# Altium footprint library Connector_Audio.PcbLib: 212 footprints (part 2 of 14)
Each footprint in its own frame and in the unit in brackets; x right, y up, seen from the top. Pads: shape width x height; smd on the part's side, far side on the other; paste and mask are expansions set on the pad; w line width, h text height; cw(c..) or ccw(c..) is an arc to the next point about the centre after c.
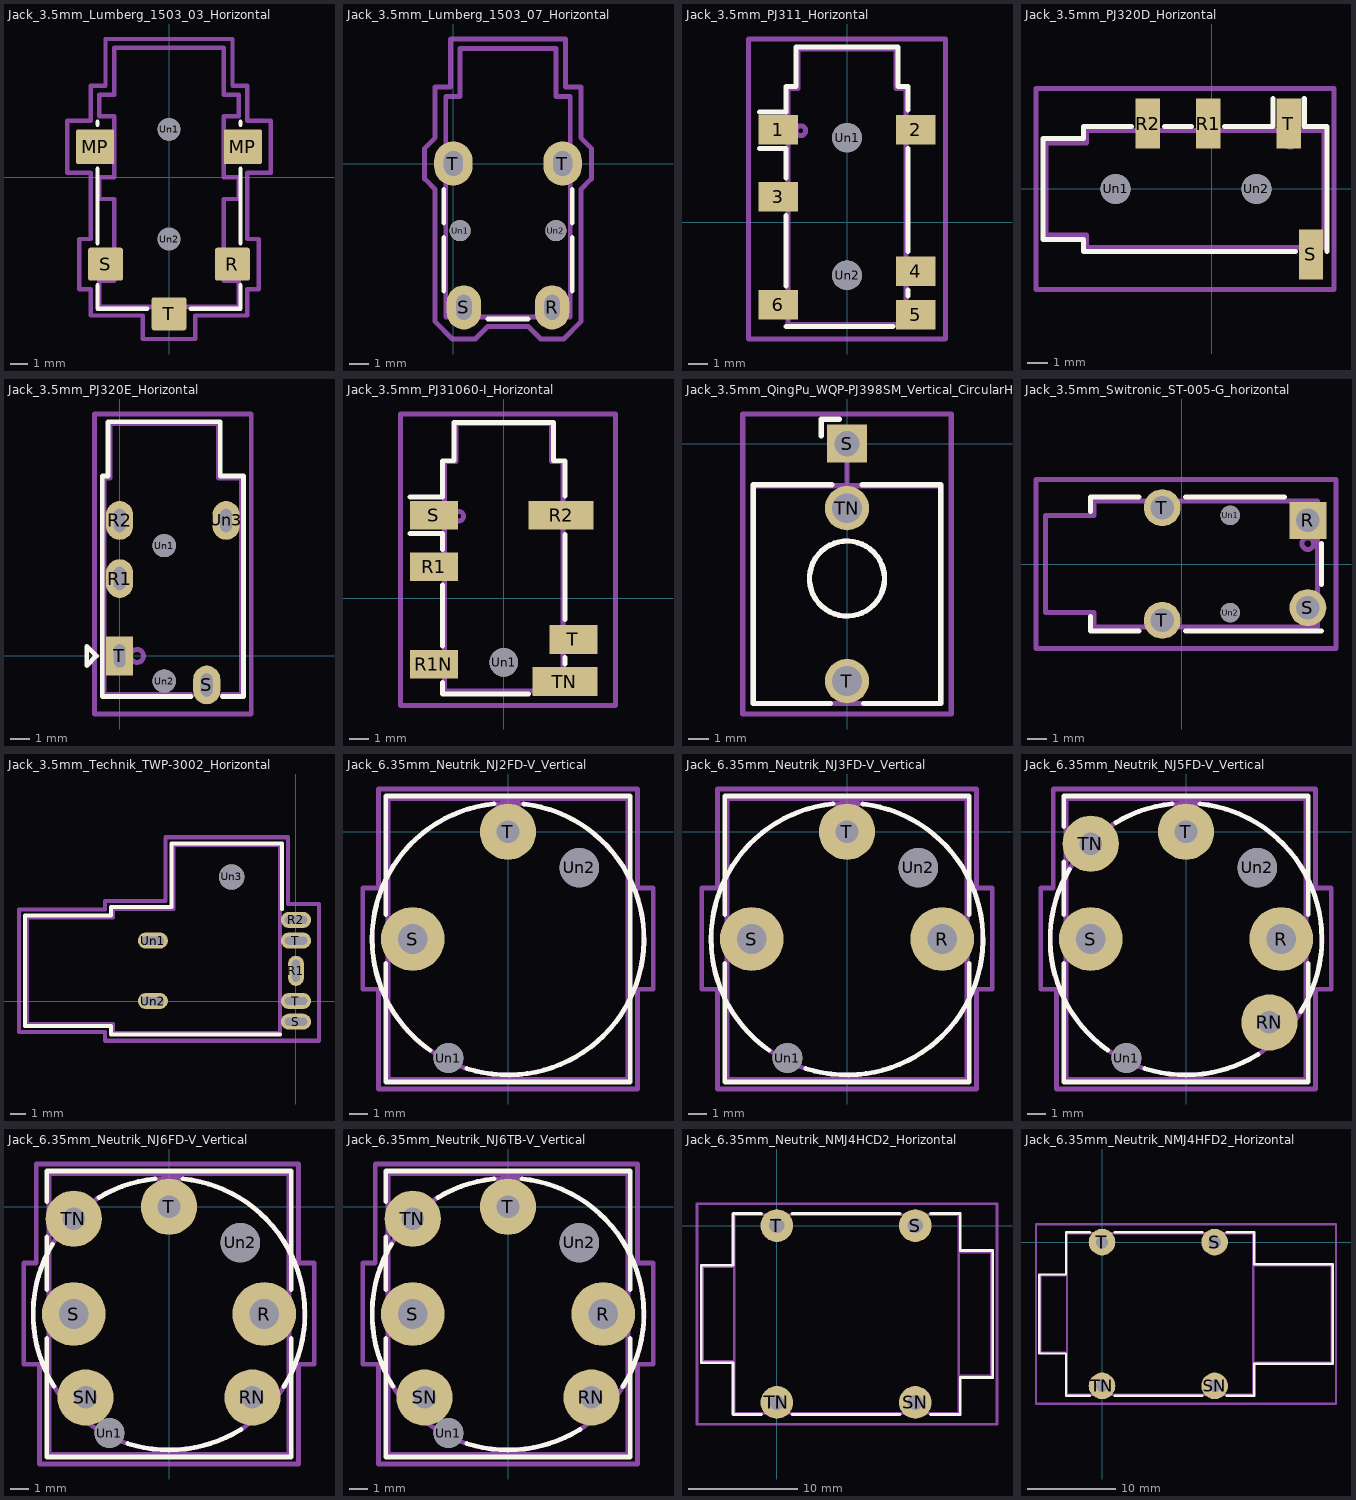
[diagram p1: the footprints below, top view; thin cyan lines are the x and y axes]

## Jack_3.5mm_Lumberg_1503_03_Horizontal [mm]
pads (7):
  rrect12% 2.2x2 smd: MP(-4.25,1.75) MP(4.25,1.75)
  rrect13% 2x1.9 smd: R(3.65,-5) S(-3.65,-5) T(0,-7.85)
  round 1.3 hole 1.3: Un1(0,2.75) Un2(0,-3.55)
F.SilkS:
  lines w0.254: -4.11,-6.21 -4.11,-7.56 -1.26,-7.56 ; -4.11,-3.79 -4.11,0.49 ; -4.11,3.01 -4.11,3.2 ; 1.26,-7.56 4.11,-7.56 4.11,-6.21 ; 4.11,-3.79 4.11,0.49 ; 4.11,3.01 4.11,3.2
Top Assembly:
  lines w0.254: -4,-7.45 -4,-5.95 -3.15,-5.95 -3.15,-1.25 -4,-1.25 -4,0 -3.15,0 -3.15,3.5 -4,3.5 -4,4.75 -3.15,4.75 -3.15,7.45 3.15,7.45 3.15,4.75 4,4.75 4,3.5 3.15,3.5 3.15,0 4,0 4,-1.25 3.15,-1.25 3.15,-5.95 4,-5.95 4,-7.45 -4,-7.45
  text "'.Designator'" at 0.84,-4.087 h1
Top Courtyard:
  lines w0.254: -5.85,0.25 -5.85,3.25 -4.5,3.25 -4.5,5.25 -3.65,5.25 -3.65,7.95 3.65,7.95 3.65,5.25 4.5,5.25 4.5,3.25 5.85,3.25 5.85,0.25 4.5,0.25 4.5,-3.55 5.15,-3.55 5.15,-6.45 4.5,-6.45 4.5,-7.95 1.5,-7.95 1.5,-9.3 -1.5,-9.3 -1.5,-7.95 -4.5,-7.95 -4.5,-6.45 -5.15,-6.45 -5.15,-3.55 -4.5,-3.55 -4.5,0.25 -5.85,0.25
Top Designator:
  text ".Designator" at -7.618,-1.183 h1.52

## Jack_3.5mm_Lumberg_1503_07_Horizontal [mm]
pads (6):
  rrect100% 1.8x2.3 hole 1.3 slot 0.8 at 0 deg: R(5.15,-7.5) S(0.55,-7.5)
  rrect100% 2x2.3 hole 1.3 slot 1 at 0 deg: T(0,0) T(5.7,0)
  round 1.1 hole 1.1: Un1(0.35,-3.5) Un2(5.35,-3.5)
F.SilkS:
  lines w0.254: -0.5,-6.65 -0.5,-3.85 ; -0.5,-3.1 -0.5,-1.35 ; 1.8,-8.1 3.9,-8.1 ; 6.2,-6.65 6.2,-3.85 ; 6.2,-3.1 6.2,-1.35
Top Assembly:
  lines w0.254: -0.4,-8 -0.4,3.5 0.35,3.5 0.35,6 5.35,6 5.35,3.5 6.1,3.5 6.1,-8 -0.4,-8
  text "'.Designator'" at 3.69,-5.072 h1
Top Courtyard:
  lines w0.254: -1.5,-0.8 -1.5,0.8 -0.95,1.35 -0.95,4 -0.15,4 -0.15,6.5 5.85,6.5 5.85,4 6.65,4 6.65,1.35 7.2,0.8 7.2,-0.8 6.65,-1.35 6.65,-8.25 5.75,-9.15 4.55,-9.15 3.9,-8.5 1.8,-8.5 1.15,-9.15 -0.05,-9.15 -0.95,-8.25 -0.95,-1.35 -1.5,-0.8
Top Designator:
  text ".Designator" at -4.768,-1.833 h1.52

## Jack_3.5mm_PJ311_Horizontal [mm]
pads (8):
  rect 2x1.5 smd: 1(-3.5,4.7) 2(3.5,4.7) 3(-3.5,1.3) 4(3.5,-2.5) 5(3.5,-4.7) 6(-3.5,-4.2)
  round 1.5 hole 1.5: Un1(0,4.3) Un2(0,-2.7)
F.SilkS:
  lines w0.254: -4.45,3.75 -3.1,3.75 -3.1,2.25 ; -4.45,5.6 -3.1,5.6 -3.1,6.9 -2.6,6.9 -2.6,8.9 2.6,8.9 2.6,6.9 3.1,6.9 3.1,5.7 ; -3.1,-5.3 2.35,-5.3 ; -3.1,-3.25 -3.1,0.35 ; 3.1,-3.75 3.1,-3.45 ; 3.1,-1.5 3.1,3.75
Top Assembly:
  circle w0.254: c-2.35,4.65 r0.25
  lines w0.254: -3,-5.2 -3,6.8 -2.5,6.8 -2.5,8.8 2.5,8.8 2.5,6.8 3,6.8 3,-5.2 -3,-5.2
  text "'.Designator'" at -4.047,-0.84 h1
Top Courtyard:
  lines w0.254: -5,-5.94 -5,9.31 5,9.31 5,-5.94 -5,-5.94
Top Designator:
  text ".Designator" at -7.618,1.177 h1.52

## Jack_3.5mm_PJ320D_Horizontal [mm]
pads (6):
  rect 1.2x2.5 smd: R1(-0.175,3.25) R2(-3.175,3.25) S(4.925,-3.25) T(3.825,3.25)
  round 1.5 hole 1.5: Un1(-4.775,0) Un2(2.225,0)
F.SilkS:
  lines w0.254: -4,3.1 -6.375,3.1 -6.375,2.5 -8.375,2.5 -8.375,-2.5 -6.375,-2.5 -6.375,-3.1 4.15,-3.1 ; -2.35,3.1 -1,3.1 ; 0.65,3.1 3.05,3.1 3.05,4.5 ; 4.6,4.5 4.6,3.1 5.725,3.1 5.725,-3.1
Top Assembly:
  circle w0.254: c3.9,2.35 r0.255
  lines w0.254: -8.225,-2.3 -8.225,2.3 -6.225,2.3 -6.225,2.9 5.575,2.9 5.575,-2.9 -6.225,-2.9 -6.225,-2.3 -8.225,-2.3
  text "'.Designator'" at -5.242,-0.84 h1
Top Courtyard:
  lines w0.254: -8.73,-5 -8.73,5 6.07,5 6.07,-5 -8.73,-5
Top Designator:
  text ".Designator" at -8.948,-0.508 h1.52

## Jack_3.5mm_PJ320E_Horizontal [mm]
pads (7):
  rrect100% 1.4x2 hole 0.6 slot 1.2 at 90 deg: R1(0,4) R2(0,7) S(4.5,-1.5) Un3(5.5,7)
  rect 1.4x2 hole 0.6 slot 1.2 at 90 deg: T(0,0)
  round 1.2 hole 1.2: Un1(2.3,5.7) Un2(2.3,-1.3)
F.SilkS:
  lines w0.254: 3.7,-2.1 -0.9,-2.1 -0.9,9.3 -0.6,9.3 -0.6,12.1 5.2,12.1 5.2,9.3 6.4,9.3 6.4,-2.1 5.3,-2.1 ; -1.7,-0.5 -1.7,0.5 -1.2,0 -1.7,-0.5
Top Assembly:
  circle w0.254: c0.9,0 r0.335
  lines w0.254: 3.7,-2 -0.8,-2 -0.8,9.2 -0.5,9.2 -0.5,12 5.1,12 5.1,9.2 6.3,9.2 6.3,-2 5.3,-2
  text "'.Designator'" at -1.507,13.13 h1
Top Courtyard:
  lines w0.254: -1.3,-3 -1.3,12.5 6.8,12.5 6.8,-3 -1.3,-3
Top Designator:
  text ".Designator" at -5.068,5.092 h1.52

## Jack_3.5mm_PJ31060-I_Horizontal [mm]
pads (7):
  rect 2.5x1.5 smd: R1(-3.65,1.65) R1N(-3.65,-3.45) S(-3.65,4.35) T(3.65,-2.15)
  rect 3.4x1.5 smd: R2(3,4.35) TN(3.2,-4.35)
  round 1.5 hole 1.5: Un1(0,-3.35)
F.SilkS:
  lines w0.254: -4.9,3.4 -3.2,3.4 -3.2,2.55 ; -4.9,5.3 -3.2,5.3 -3.2,7.2 -2.6,7.2 -2.6,9.2 2.6,9.2 2.6,7.2 3.2,7.2 3.2,5.35 ; -3.2,-4.4 -3.2,-5 1.3,-5 ; -3.2,-2.5 -3.2,0.7 ; 3.2,-3.45 3.2,-3.1 ; 3.2,-1.1 3.2,3.35
Top Assembly:
  circle w0.254: c-2.35,4.3 r0.25
  lines w0.254: -3.1,-4.85 -3.1,7.15 -2.5,7.15 -2.5,9.15 2.5,9.15 2.5,7.15 3.1,7.15 3.1,-4.85 -3.1,-4.85
  text "'.Designator'" at -4.047,-0.84 h1
Top Courtyard:
  lines w0.254: -5.4,-5.6 -5.4,9.65 5.85,9.65 5.85,-5.6 -5.4,-5.6
Top Designator:
  text ".Designator" at -7.393,1.517 h1.52

## Jack_3.5mm_QingPu_WQP-PJ398SM_Vertical_CircularHoles [mm]
pads (3):
  rect 1.93x1.83 hole 1.22: S(0,0)
  round 2.13 hole 1.43: T(0,-11.4)
  round 2.13 hole 1.42: TN(0,-3.1)
F.SilkS:
  circle w0.254: c0,-6.48 r1.8
  lines w0.254: -1.23,0.37 -1.23,1.17 -0.37,1.17 ; -0.8,-12.48 -4.5,-12.48 -4.5,-1.98 -0.72,-1.98 ; 0.72,-1.98 4.5,-1.98 4.5,-12.48 0.8,-12.48
Top Assembly:
  circle w0.254: c0,-6.48 r1.8
  lines w0.254: -4.5,-2.08 -4.5,-12.48 4.5,-12.48 4.5,-2.08 ; -4.5,-2.03 4.5,-2.03 ; 0,-2.03 0,0
  text "'.Designator'" at -4.047,-8.84 h1
Top Courtyard:
  lines w0.254: -5,-12.98 -5,1.42 5,1.42 5,-12.98 -5,-12.98
Top Designator:
  text ".Designator" at -7.618,-6.288 h1.52
Cmts.User:
  text "KEEPOUT" at -1.242,-6.731 h0.4

## Jack_3.5mm_Switronic_ST-005-G_horizontal [mm]
pads (6):
  rect 1.9x1.9 hole 1.2: R(6.5,2.25)
  round 1.9 hole 1.2: S(6.5,-2.25) T(-1,-2.9) T(-1,2.9)
  round 1 hole 1: Un1(2.5,2.5) Un2(2.5,-2.5)
F.SilkS:
  lines w0.254: -4.7,-2.7 -4.7,-3.45 -2.2,-3.45 ; -4.7,2.7 -4.7,3.45 -2.2,3.45 ; 0.2,-3.45 7.2,-3.45 ; 0.2,3.45 5.3,3.45 ; 7.2,-1.05 7.2,1.05
Top Assembly:
  circle w0.254: c6.5,1.05 r0.3
  lines w0.254: -7,-2.5 -7,2.5 -4.5,2.5 -4.5,3.25 7,3.25 7,-3.25 -4.5,-3.25 -4.5,-2.5 -7,-2.5
  text "'.Designator'" at -2.828,-0.583 h0.7
Top Courtyard:
  lines w0.254: -7.5,-4.35 -7.5,4.35 7.95,4.35 7.95,-4.35 -7.5,-4.35
Top Designator:
  text ".Designator" at -7.393,-0.508 h1.52

## Jack_3.5mm_Technik_TWP-3002_Horizontal [mm]
pads (8):
  rrect100% 1x1.9 hole 1.4 slot 0.5 at 0 deg: R1(0,1.9)
  rrect100% 1.9x1 hole 0.5 slot 1.4 at 0 deg: R2(0,5.1) S(0,-1.3) T(0,0) T(0,3.8) Un1(-9,3.8) Un2(-9,0)
  round 1.6 hole 1.6: Un3(-4.05,7.8)
F.SilkS:
  lines w0.254: -1,-2.12 -11.62,-2.12 -11.62,-1.57 -17.04,-1.57 -17.04,5.37 -11.62,5.37 -11.62,5.92 -7.82,5.92 -7.82,9.92 -0.88,9.92 -0.88,5.8
Top Assembly:
  lines w0.254: -16.92,-1.45 -16.92,5.25 -11.5,5.25 -11.5,5.8 -7.7,5.8 -7.7,9.8 -1,9.8 -1,-2 -11.5,-2 -11.5,-1.45 -16.92,-1.45
  text "'.Designator'" at -8.547,1.06 h1
Top Courtyard:
  lines w0.254: -17.42,-1.95 -17.42,5.75 -12,5.75 -12,6.3 -8.2,6.3 -8.2,10.3 -0.5,10.3 -0.5,6.1 1.45,6.1 1.45,-2.5 -12,-2.5 -12,-1.95 -17.42,-1.95
Top Designator:
  text ".Designator" at -15.603,3.392 h1.52

## Jack_6.35mm_Neutrik_NJ2FD-V_Vertical [mm]
pads (4):
  round 3.4 hole 1.6: S(-5.08,-5.72)
  round 3 hole 1.2: T(0,0)
  round 1.6 hole 1.6: Un1(-3.18,-12.07)
  round 2.1 hole 2.1: Un2(3.81,-1.91)
F.SilkS:
  lines w0.254: -6.52,-7.02 -6.52,-13.34 6.52,-13.34 6.52,1.9 -6.52,1.9 -6.52,-4.42 ; -4.164,-11.653 cw(c0,-5.72) -0.75,1.49 ; -2.2,-12.63 ccw(c0,-5.72) 0.841,1.483
Top Assembly:
  circle w0.254: c0,-5.72 r7.25
  lines w0.254: -6.4,-13.22 -6.4,1.78 6.4,1.78 6.4,-13.22 -6.4,-13.22
  text "'.Designator'" at -4.047,-6.56 h1
Top Courtyard:
  lines w0.254: -7.75,-8.4 -7.75,-3 -6.9,-3 -6.9,2.28 6.9,2.28 6.9,-3 7.75,-3 7.75,-8.4 6.9,-8.4 6.9,-13.72 -6.9,-13.72 -6.9,-8.4 -7.75,-8.4
Top Designator:
  text ".Designator" at -7.618,-6.228 h1.52

## Jack_6.35mm_Neutrik_NJ3FD-V_Vertical [mm]
pads (5):
  round 3.4 hole 1.6: R(5.08,-5.72) S(-5.08,-5.72)
  round 3 hole 1.2: T(0,0)
  round 1.6 hole 1.6: Un1(-3.18,-12.07)
  round 2.1 hole 2.1: Un2(3.81,-1.91)
F.SilkS:
  lines w0.254: -6.52,-7.02 -6.52,-13.34 6.52,-13.34 6.52,-7.02 ; -6.52,-4.42 -6.52,1.9 6.52,1.9 6.52,-4.42 ; -4.164,-11.653 cw(c0,-5.72) -0.75,1.49 ; -2.2,-12.63 ccw(c0,-5.72) 0.841,1.483
Top Assembly:
  circle w0.254: c0,-5.72 r7.25
  lines w0.254: -6.4,-13.22 6.4,-13.22 6.4,1.78 -6.4,1.78 -6.4,-13.22
  text "'.Designator'" at -4.047,-6.56 h1
Top Courtyard:
  lines w0.254: -7.75,-8.4 -6.9,-8.4 -6.9,-13.72 6.9,-13.72 6.9,-8.4 7.75,-8.4 7.75,-3 6.9,-3 6.9,2.28 -6.9,2.28 -6.9,-3 -7.75,-3 -7.75,-8.4
Top Designator:
  text ".Designator" at -7.618,-6.228 h1.52

## Jack_6.35mm_Neutrik_NJ5FD-V_Vertical [mm]
pads (7):
  round 3.4 hole 1.6: R(5.08,-5.72) S(-5.08,-5.72)
  round 3 hole 1.2: RN(4.45,-10.17) T(0,0) TN(-5.08,-0.64)
  round 1.6 hole 1.6: Un1(-3.18,-12.07)
  round 2.1 hole 2.1: Un2(3.81,-1.91)
F.SilkS:
  lines w0.254: -6.52,-7.02 -6.52,-13.34 6.52,-13.34 6.52,-7.02 ; -6.52,-4.42 -6.52,-1.62 ; -6.52,0.28 -6.52,1.9 6.52,1.9 6.52,-4.42 ; -6.22,-2 ccw(c0,-5.72) -4.186,-11.636 ; -3.727,0.498 cw(c0,-5.72) -0.75,1.49 ; -2.2,-12.63 ccw(c0,-5.72) 3.836,-11.874 ; 0.742,1.488 cw(c0,-5.72) 6.12,-9.6
Top Assembly:
  circle w0.254: c0,-5.72 r7.25
  lines w0.254: -6.4,-13.22 6.4,-13.22 6.4,1.78 -6.4,1.78 -6.4,-13.22
  text "'.Designator'" at -4.047,-6.56 h1
Top Courtyard:
  lines w0.254: -7.75,-8.4 -6.9,-8.4 -6.9,-13.72 6.9,-13.72 6.9,-8.4 7.75,-8.4 7.75,-3 6.9,-3 6.9,2.28 -7.08,2.28 -7.08,-3 -7.75,-3 -7.75,-8.4
Top Designator:
  text ".Designator" at -7.618,-6.228 h1.52

## Jack_6.35mm_Neutrik_NJ6FD-V_Vertical [mm]
pads (8):
  round 3.4 hole 1.6: R(5.08,-5.72) S(-5.08,-5.72)
  round 3 hole 1.2: RN(4.45,-10.17) SN(-4.45,-10.17) T(0,0) TN(-5.08,-0.64)
  round 1.6 hole 1.6: Un1(-3.18,-12.07)
  round 2.1 hole 2.1: Un2(3.81,-1.91)
F.SilkS:
  lines w0.254: -6.52,-7.02 -6.52,-13.34 6.52,-13.34 6.52,-7.02 ; -6.52,-4.42 -6.52,-1.62 ; -6.52,0.28 -6.52,1.9 6.52,1.9 6.52,-4.42 ; -6.22,-2 ccw(c0,-5.72) -6.138,-9.573 ; -3.727,0.498 cw(c0,-5.72) -0.75,1.49 ; -2.2,-12.63 ccw(c0,-5.72) 3.836,-11.874 ; 0.742,1.488 cw(c0,-5.72) 6.12,-9.6
Top Assembly:
  circle w0.254: c0,-5.72 r7.25
  lines w0.254: -6.4,-13.22 6.4,-13.22 6.4,1.78 -6.4,1.78 -6.4,-13.22
  text "'.Designator'" at -4.047,-6.56 h1
Top Courtyard:
  lines w0.254: -7.75,-8.4 -6.9,-8.4 -6.9,-13.72 6.9,-13.72 6.9,-8.4 7.75,-8.4 7.75,-3 6.9,-3 6.9,2.28 -7.08,2.28 -7.08,-3 -7.75,-3 -7.75,-8.4
Top Designator:
  text ".Designator" at -7.618,-6.228 h1.52

## Jack_6.35mm_Neutrik_NJ6TB-V_Vertical [mm]
pads (8):
  round 3.4 hole 1.6: R(5.08,-5.72) S(-5.08,-5.72)
  round 3 hole 1.2: RN(4.45,-10.17) SN(-4.45,-10.17) T(0,0) TN(-5.08,-0.64)
  round 1.6 hole 1.6: Un1(-3.18,-12.07)
  round 2.1 hole 2.1: Un2(3.81,-1.91)
F.SilkS:
  lines w0.254: -6.52,-7.02 -6.52,-13.34 6.52,-13.34 6.52,-7.02 ; -6.52,-4.42 -6.52,-1.62 ; -6.52,0.28 -6.52,1.9 6.52,1.9 6.52,-4.42 ; -6.22,-2 ccw(c0,-5.72) -6.138,-9.573 ; -3.727,0.498 cw(c0,-5.72) -0.75,1.49 ; -2.2,-12.63 ccw(c0,-5.72) 3.836,-11.874 ; 0.742,1.488 cw(c0,-5.72) 6.12,-9.6
Top Assembly:
  circle w0.254: c0,-5.72 r7.25
  lines w0.254: -6.4,-13.22 6.4,-13.22 6.4,1.78 -6.4,1.78 -6.4,-13.22
  text "'.Designator'" at -4.047,-6.56 h1
Top Courtyard:
  lines w0.254: -7.75,-8.4 -6.9,-8.4 -6.9,-13.72 6.9,-13.72 6.9,-8.4 7.75,-8.4 7.75,-3 6.9,-3 6.9,2.28 -7.08,2.28 -7.08,-3 -7.75,-3 -7.75,-8.4
Top Designator:
  text ".Designator" at -7.618,-6.228 h1.52

## Jack_6.35mm_Neutrik_NMJ4HCD2_Horizontal [mm]
pads (4):
  round 3 hole 1.4: S(12.7,0) SN(12.7,-16.23) T(0,0) TN(0,-16.23)
F.SilkS:
  lines w0.254: -6.95,-12.585 -4.03,-12.585 -4.03,-17.335 -1.4,-17.335 ; -6.95,-12.545 -6.95,-3.645 -4.03,-3.645 -4.03,1.105 -1.4,1.105 ; 1.4,-17.335 11.3,-17.335 ; 1.4,1.105 11.3,1.105 ; 14.1,-17.335 16.82,-17.335 16.82,-13.935 19.82,-13.935 19.82,-2.295 16.82,-2.295 16.82,1.105 14.1,1.105
Top Assembly:
  lines w0.254: -3.91,-12.465 -6.83,-12.465 -6.83,-3.765 -3.91,-3.765 ; 16.7,-13.815 19.7,-13.815 19.7,-2.415 16.7,-2.415 ; -3.91,-17.215 16.7,-17.215 16.7,0.985 -3.91,0.985 -3.91,-17.215
  text "'.Designator'" at 2.303,-8.955 h1
Top Courtyard:
  lines w0.254: -7.33,-18.23 20.2,-18.23 20.2,2 -7.33,2 -7.33,-18.23
Top Designator:
  text ".Designator" at -1.183,-8.623 h1.52

## Jack_6.35mm_Neutrik_NMJ4HFD2_Horizontal [mm]
pads (4):
  round 3 hole 1.4: S(12.7,0) SN(12.7,-16.23) T(0,0) TN(0,-16.23)
F.SilkS:
  lines w0.254: -7.07,-12.585 -4.07,-12.585 -4.07,-17.335 -1.35,-17.335 ; -7.07,-12.545 -7.07,-3.645 -4.07,-3.645 -4.07,1.105 -1.35,1.105 ; 1.4,-17.335 11.3,-17.335 ; 1.4,1.105 11.3,1.105 ; 14.05,-17.335 17.17,-17.335 17.17,-13.735 26.02,-13.735 26.02,-2.495 17.17,-2.495 17.17,1.105 14.05,1.105
Top Assembly:
  lines w0.254: -3.95,-12.465 -6.95,-12.465 -6.95,-3.765 -3.95,-3.765 ; 17.05,-13.615 25.9,-13.615 25.9,-2.615 17.05,-2.615 ; -3.95,-17.215 17.05,-17.215 17.05,0.985 -3.95,0.985 -3.95,-17.215
  text "'.Designator'" at 2.303,-8.955 h1
Top Courtyard:
  lines w0.254: -7.45,-18.23 26.4,-18.23 26.4,2 -7.45,2 -7.45,-18.23
Top Designator:
  text ".Designator" at 1.857,-8.623 h1.52